# Altium footprint library MicrelSwitch.PcbLib: 2 footprints
Each footprint in its own frame and in the unit in brackets; x right, y up, seen from the top. Pads: shape width x height; smd on the part's side, far side on the other; paste and mask are expansions set on the pad; w line width, h text height; cw(c..) or ccw(c..) is an arc to the next point about the centre after c.
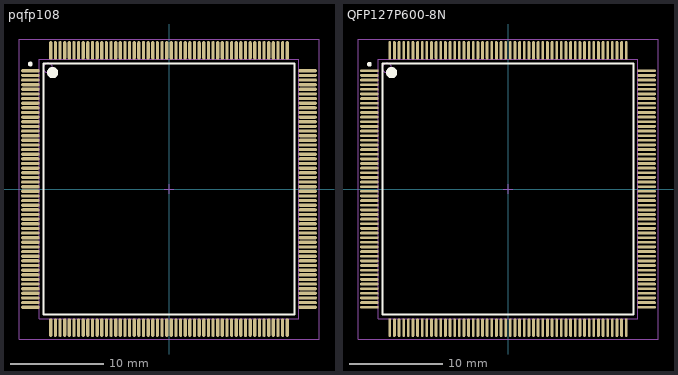
[diagram p0: the footprints below, top view; thin cyan lines are the x and y axes]

## pqfp108 [mm] "SQFP, 208-Leads, Body 31.2x31.2mm (max), Pitch 0.50mm, IPC Medium Density"
height 3.8
pads (208):
  oval 2x0.35 smd: 1(-14.95,12.75) 2(-14.95,12.25) 3(-14.95,11.75) 4(-14.95,11.25) 5(-14.95,10.75) 6(-14.95,10.25) 7(-14.95,9.75) 8(-14.95,9.25) 9(-14.95,8.75) 10(-14.95,8.25) 11(-14.95,7.75) 12(-14.95,7.25) 13(-14.95,6.75) 14(-14.95,6.25) 15(-14.95,5.75) 16(-14.95,5.25) 17(-14.95,4.75) 18(-14.95,4.25) 19(-14.95,3.75) 20(-14.95,3.25) 21(-14.95,2.75) 22(-14.95,2.25) 23(-14.95,1.75) 24(-14.95,1.25) 25(-14.95,0.75) 26(-14.95,0.25) 27(-14.95,-0.25) 28(-14.95,-0.75) 29(-14.95,-1.25) 30(-14.95,-1.75) 31(-14.95,-2.25) 32(-14.95,-2.75) 33(-14.95,-3.25) 34(-14.95,-3.75) 35(-14.95,-4.25) 36(-14.95,-4.75) 37(-14.95,-5.25) 38(-14.95,-5.75) 39(-14.95,-6.25) 40(-14.95,-6.75) 41(-14.95,-7.25) 42(-14.95,-7.75) 43(-14.95,-8.25) 44(-14.95,-8.75) 45(-14.95,-9.25) 46(-14.95,-9.75) 47(-14.95,-10.25) 48(-14.95,-10.75) 49(-14.95,-11.25) 50(-14.95,-11.75) 51(-14.95,-12.25) 52(-14.95,-12.75) 105(14.95,-12.75) 106(14.95,-12.25) 107(14.95,-11.75) 108(14.95,-11.25) 109(14.95,-10.75) 110(14.95,-10.25) 111(14.95,-9.75) 112(14.95,-9.25) 113(14.95,-8.75) 114(14.95,-8.25) 115(14.95,-7.75) 116(14.95,-7.25) 117(14.95,-6.75) 118(14.95,-6.25) 119(14.95,-5.75) 120(14.95,-5.25) 121(14.95,-4.75) 122(14.95,-4.25) 123(14.95,-3.75) 124(14.95,-3.25) 125(14.95,-2.75) 126(14.95,-2.25) 127(14.95,-1.75) 128(14.95,-1.25) 129(14.95,-0.75) 130(14.95,-0.25) 131(14.95,0.25) 132(14.95,0.75) 133(14.95,1.25) 134(14.95,1.75) 135(14.95,2.25) 136(14.95,2.75) 137(14.95,3.25) 138(14.95,3.75) 139(14.95,4.25) 140(14.95,4.75) 141(14.95,5.25) 142(14.95,5.75) 143(14.95,6.25) 144(14.95,6.75) 145(14.95,7.25) 146(14.95,7.75) 147(14.95,8.25) 148(14.95,8.75) 149(14.95,9.25) 150(14.95,9.75) 151(14.95,10.25) 152(14.95,10.75) 153(14.95,11.25) 154(14.95,11.75) 155(14.95,12.25) 156(14.95,12.75)
  oval 0.35x2 smd: 53(-12.75,-14.95) 54(-12.25,-14.95) 55(-11.75,-14.95) 56(-11.25,-14.95) 57(-10.75,-14.95) 58(-10.25,-14.95) 59(-9.75,-14.95) 60(-9.25,-14.95) 61(-8.75,-14.95) 62(-8.25,-14.95) 63(-7.75,-14.95) 64(-7.25,-14.95) 65(-6.75,-14.95) 66(-6.25,-14.95) 67(-5.75,-14.95) 68(-5.25,-14.95) 69(-4.75,-14.95) 70(-4.25,-14.95) 71(-3.75,-14.95) 72(-3.25,-14.95) 73(-2.75,-14.95) 74(-2.25,-14.95) 75(-1.75,-14.95) 76(-1.25,-14.95) 77(-0.75,-14.95) 78(-0.25,-14.95) 79(0.25,-14.95) 80(0.75,-14.95) 81(1.25,-14.95) 82(1.75,-14.95) 83(2.25,-14.95) 84(2.75,-14.95) 85(3.25,-14.95) 86(3.75,-14.95) 87(4.25,-14.95) 88(4.75,-14.95) 89(5.25,-14.95) 90(5.75,-14.95) 91(6.25,-14.95) 92(6.75,-14.95) 93(7.25,-14.95) 94(7.75,-14.95) 95(8.25,-14.95) 96(8.75,-14.95) 97(9.25,-14.95) 98(9.75,-14.95) 99(10.25,-14.95) 100(10.75,-14.95) 101(11.25,-14.95) 102(11.75,-14.95) 103(12.25,-14.95) 104(12.75,-14.95) 157(12.75,14.95) 158(12.25,14.95) 159(11.75,14.95) 160(11.25,14.95) 161(10.75,14.95) 162(10.25,14.95) 163(9.75,14.95) 164(9.25,14.95) 165(8.75,14.95) 166(8.25,14.95) 167(7.75,14.95) 168(7.25,14.95) 169(6.75,14.95) 170(6.25,14.95) 171(5.75,14.95) 172(5.25,14.95) 173(4.75,14.95) 174(4.25,14.95) 175(3.75,14.95) 176(3.25,14.95) 177(2.75,14.95) 178(2.25,14.95) 179(1.75,14.95) 180(1.25,14.95) 181(0.75,14.95) 182(0.25,14.95) 183(-0.25,14.95) 184(-0.75,14.95) 185(-1.25,14.95) 186(-1.75,14.95) 187(-2.25,14.95) 188(-2.75,14.95) 189(-3.25,14.95) 190(-3.75,14.95) 191(-4.25,14.95) 192(-4.75,14.95) 193(-5.25,14.95) 194(-5.75,14.95) 195(-6.25,14.95) 196(-6.75,14.95) 197(-7.25,14.95) 198(-7.75,14.95) 199(-8.25,14.95) 200(-8.75,14.95) 201(-9.25,14.95) 202(-9.75,14.95) 203(-10.25,14.95) 204(-10.75,14.95) 205(-11.25,14.95) 206(-11.75,14.95) 207(-12.25,14.95) 208(-12.75,14.95)
Top Overlay:
  circle w0.6: c-12.55,12.55 r0.3
  circle w0.25: c-14.95,13.475 r0.125
  lines w0.2: -13.55,-13.55 13.55,-13.55 13.55,13.55 -13.55,13.55 -13.55,-13.55
Mechanical 13:
  circle w0.1: c-13.05,13.05 r0.5
  lines w0.1: -14,-14 14,-14 14,14 -14,14 -14,-14
Mechanical 15:
  lines w0.1: -0.5,0 0.5,0 ; 0,-0.5 0,0.5 ; -16.175,-16.175 16.175,-16.175 16.175,16.175 -16.175,16.175 -16.175,-16.175
3D body: height 3.8, standoff 0.35, extent -14,-14 14,14

## QFP127P600-8N [mm]
height 3.8
pads (208):
  oval 2x0.3 smd: 1(-14.95,12.75) 2(-14.95,12.25) 3(-14.95,11.75) 4(-14.95,11.25) 5(-14.95,10.75) 6(-14.95,10.25) 7(-14.95,9.75) 8(-14.95,9.25) 9(-14.95,8.75) 10(-14.95,8.25) 11(-14.95,7.75) 12(-14.95,7.25) 13(-14.95,6.75) 14(-14.95,6.25) 15(-14.95,5.75) 16(-14.95,5.25) 17(-14.95,4.75) 18(-14.95,4.25) 19(-14.95,3.75) 20(-14.95,3.25) 21(-14.95,2.75) 22(-14.95,2.25) 23(-14.95,1.75) 24(-14.95,1.25) 25(-14.95,0.75) 26(-14.95,0.25) 27(-14.95,-0.25) 28(-14.95,-0.75) 29(-14.95,-1.25) 30(-14.95,-1.75) 31(-14.95,-2.25) 32(-14.95,-2.75) 33(-14.95,-3.25) 34(-14.95,-3.75) 35(-14.95,-4.25) 36(-14.95,-4.75) 37(-14.95,-5.25) 38(-14.95,-5.75) 39(-14.95,-6.25) 40(-14.95,-6.75) 41(-14.95,-7.25) 42(-14.95,-7.75) 43(-14.95,-8.25) 44(-14.95,-8.75) 45(-14.95,-9.25) 46(-14.95,-9.75) 47(-14.95,-10.25) 48(-14.95,-10.75) 49(-14.95,-11.25) 50(-14.95,-11.75) 51(-14.95,-12.25) 52(-14.95,-12.75) 105(14.95,-12.75) 106(14.95,-12.25) 107(14.95,-11.75) 108(14.95,-11.25) 109(14.95,-10.75) 110(14.95,-10.25) 111(14.95,-9.75) 112(14.95,-9.25) 113(14.95,-8.75) 114(14.95,-8.25) 115(14.95,-7.75) 116(14.95,-7.25) 117(14.95,-6.75) 118(14.95,-6.25) 119(14.95,-5.75) 120(14.95,-5.25) 121(14.95,-4.75) 122(14.95,-4.25) 123(14.95,-3.75) 124(14.95,-3.25) 125(14.95,-2.75) 126(14.95,-2.25) 127(14.95,-1.75) 128(14.95,-1.25) 129(14.95,-0.75) 130(14.95,-0.25) 131(14.95,0.25) 132(14.95,0.75) 133(14.95,1.25) 134(14.95,1.75) 135(14.95,2.25) 136(14.95,2.75) 137(14.95,3.25) 138(14.95,3.75) 139(14.95,4.25) 140(14.95,4.75) 141(14.95,5.25) 142(14.95,5.75) 143(14.95,6.25) 144(14.95,6.75) 145(14.95,7.25) 146(14.95,7.75) 147(14.95,8.25) 148(14.95,8.75) 149(14.95,9.25) 150(14.95,9.75) 151(14.95,10.25) 152(14.95,10.75) 153(14.95,11.25) 154(14.95,11.75) 155(14.95,12.25) 156(14.95,12.75)
  oval 0.3x2 smd: 53(-12.75,-14.95) 54(-12.25,-14.95) 55(-11.75,-14.95) 56(-11.25,-14.95) 57(-10.75,-14.95) 58(-10.25,-14.95) 59(-9.75,-14.95) 60(-9.25,-14.95) 61(-8.75,-14.95) 62(-8.25,-14.95) 63(-7.75,-14.95) 64(-7.25,-14.95) 65(-6.75,-14.95) 66(-6.25,-14.95) 67(-5.75,-14.95) 68(-5.25,-14.95) 69(-4.75,-14.95) 70(-4.25,-14.95) 71(-3.75,-14.95) 72(-3.25,-14.95) 73(-2.75,-14.95) 74(-2.25,-14.95) 75(-1.75,-14.95) 76(-1.25,-14.95) 77(-0.75,-14.95) 78(-0.25,-14.95) 79(0.25,-14.95) 80(0.75,-14.95) 81(1.25,-14.95) 82(1.75,-14.95) 83(2.25,-14.95) 84(2.75,-14.95) 85(3.25,-14.95) 86(3.75,-14.95) 87(4.25,-14.95) 88(4.75,-14.95) 89(5.25,-14.95) 90(5.75,-14.95) 91(6.25,-14.95) 92(6.75,-14.95) 93(7.25,-14.95) 94(7.75,-14.95) 95(8.25,-14.95) 96(8.75,-14.95) 97(9.25,-14.95) 98(9.75,-14.95) 99(10.25,-14.95) 100(10.75,-14.95) 101(11.25,-14.95) 102(11.75,-14.95) 103(12.25,-14.95) 104(12.75,-14.95) 157(12.75,14.95) 158(12.25,14.95) 159(11.75,14.95) 160(11.25,14.95) 161(10.75,14.95) 162(10.25,14.95) 163(9.75,14.95) 164(9.25,14.95) 165(8.75,14.95) 166(8.25,14.95) 167(7.75,14.95) 168(7.25,14.95) 169(6.75,14.95) 170(6.25,14.95) 171(5.75,14.95) 172(5.25,14.95) 173(4.75,14.95) 174(4.25,14.95) 175(3.75,14.95) 176(3.25,14.95) 177(2.75,14.95) 178(2.25,14.95) 179(1.75,14.95) 180(1.25,14.95) 181(0.75,14.95) 182(0.25,14.95) 183(-0.25,14.95) 184(-0.75,14.95) 185(-1.25,14.95) 186(-1.75,14.95) 187(-2.25,14.95) 188(-2.75,14.95) 189(-3.25,14.95) 190(-3.75,14.95) 191(-4.25,14.95) 192(-4.75,14.95) 193(-5.25,14.95) 194(-5.75,14.95) 195(-6.25,14.95) 196(-6.75,14.95) 197(-7.25,14.95) 198(-7.75,14.95) 199(-8.25,14.95) 200(-8.75,14.95) 201(-9.25,14.95) 202(-9.75,14.95) 203(-10.25,14.95) 204(-10.75,14.95) 205(-11.25,14.95) 206(-11.75,14.95) 207(-12.25,14.95) 208(-12.75,14.95)
Top Overlay:
  circle w0.6: c-12.55,12.55 r0.3
  circle w0.25: c-14.95,13.45 r0.125
  lines w0.2: -13.55,-13.55 13.55,-13.55 13.55,13.55 -13.55,13.55 -13.55,-13.55
Mechanical 13:
  circle w0.1: c-13.05,13.05 r0.5
  lines w0.1: -14,-14 14,-14 14,14 -14,14 -14,-14
Mechanical 15:
  lines w0.1: -0.5,0 0.5,0 ; 0,-0.5 0,0.5 ; -16.175,-16.175 16.175,-16.175 16.175,16.175 -16.175,16.175 -16.175,-16.175
3D body: height 3.8, standoff 0.35, extent -14,-14 14,14